# Altium integrated library HX711.IntLib: 1 symbol
Pins are listed as number, name and electrical type; pins without a type are passive.

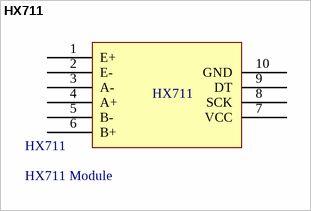
[diagram p0: symbol HX711]

## HX711
designator HX711, comment HX711 Module
footprint HX711
pins: 1 E+, 2 E-, 3 A-, 4 A+, 5 B-, 6 B+, 7 VCC, 8 SCK, 9 DT, 10 GND